# EAGLE library part 645010117322 (library Wuerth_Elektronik_eiCan_Wire_to_Board_Connectors v1.2)
WR-WTB 3.96mm Male Right Angled Locking Header, 10 Pins
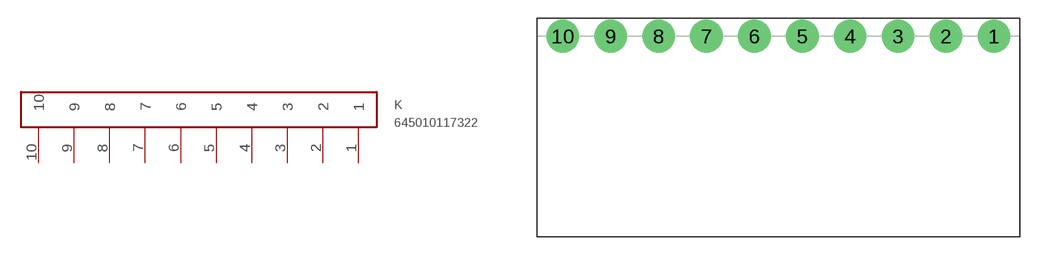
[diagram p4: symbol with the pads of 645010117322; footprint 645010117322]

Designator prefix K

## 645010117322  [645010117322]
1  1
2  2
3  3
4  4
5  5
6  6
7  7
8  8
9  9
10  10

## Footprint 645010117322 (pad centres in mm)
WR-WTB 3.96mm Male Right Angled Locking Header, 10 Pins
drill 1.8 round: 1 1.98,0; 2 -1.98,0; 3 -5.94,0; 4 -9.9,0; 5 -13.86,0; 6 -17.82,0; 7 -21.78,0; 8 -25.74,0; 9 -29.7,0; 10 -33.66,0